# Altium schematic symbol library LM393APSR.Schlib: 1 symbol
Pins are listed as number, name and electrical type; pins without a type are passive.

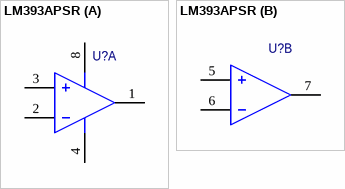
[diagram p0: symbol LM393APSR]

## LM393APSR
designator U?
footprint SO-8
part A pins: 1 OUT, 2 -IN, 3 +IN, 4 V-, 8 V+
part B pins: 5 +IN, 6 -IN, 7 OUT